# Altium footprint library Nixielib.PcbLib: 35 footprints (part 2 of 3)
Each footprint in its own frame and in the unit in brackets; x right, y up, seen from the top. Pads: shape width x height; smd on the part's side, far side on the other; paste and mask are expansions set on the pad; w line width, h text height; cw(c..) or ccw(c..) is an arc to the next point about the centre after c.
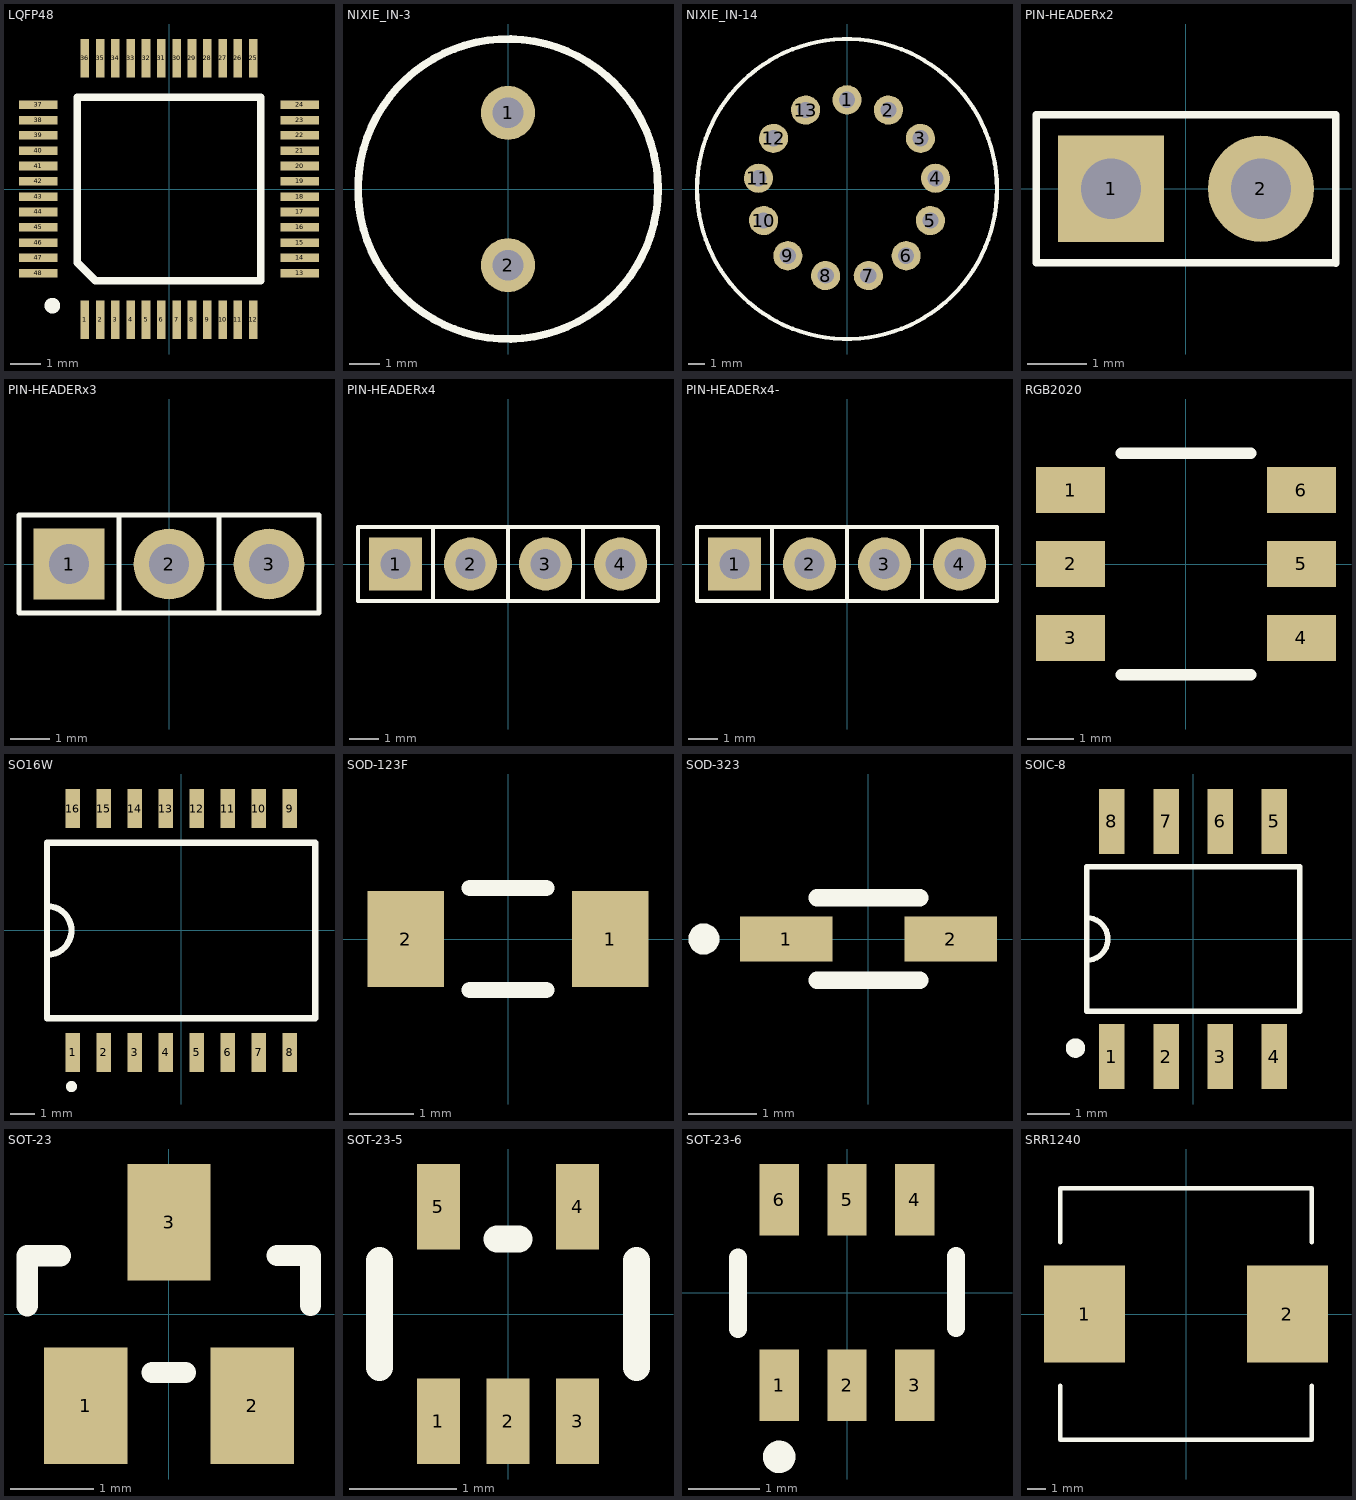
[diagram p1: the footprints below, top view; thin cyan lines are the x and y axes]

## LQFP48 [mm]
pads (48):
  rect 0.28x1.25 smd: 1(-2.75,-4.274) 2(-2.25,-4.274) 3(-1.75,-4.274) 4(-1.25,-4.274) 5(-0.75,-4.274) 6(-0.25,-4.274) 7(0.25,-4.274) 8(0.75,-4.274) 9(1.25,-4.274) 10(1.75,-4.274) 11(2.25,-4.274) 12(2.75,-4.274) 25(2.75,4.274) 26(2.25,4.274) 27(1.75,4.274) 28(1.25,4.274) 29(0.75,4.274) 30(0.25,4.274) 31(-0.25,4.274) 32(-0.75,4.274) 33(-1.25,4.274) 34(-1.75,4.274) 35(-2.25,4.274) 36(-2.75,4.274)
  rect 1.25x0.28 smd: 13(4.274,-2.75) 14(4.274,-2.25) 15(4.274,-1.75) 16(4.274,-1.25) 17(4.274,-0.75) 18(4.274,-0.25) 19(4.274,0.25) 20(4.274,0.75) 21(4.274,1.25) 22(4.274,1.75) 23(4.274,2.25) 24(4.274,2.75) 37(-4.274,2.75) 38(-4.274,2.25) 39(-4.274,1.75) 40(-4.274,1.25) 41(-4.274,0.75) 42(-4.274,0.25) 43(-4.274,-0.25) 44(-4.274,-0.75) 45(-4.274,-1.25) 46(-4.274,-1.75) 47(-4.274,-2.25) 48(-4.274,-2.75)
Top Overlay:
  circle w0.254: c-3.81,-3.81 r0.127
  lines w0.254: -3,-2.4 -2.4,-3 3,-3 3,3 -3,3 -3,-2.4
3D body "User Library-LQFP48_Grid_0_5.STEP": height 1.6, standoff 0, extent -4.5,-4.499 4.5,4.501

## NIXIE_IN-3 [mm]
pads (2):
  round 1.8 hole 1.02: 1(0,2.54) 2(0,-2.54)
Top Overlay:
  circle w0.254: c0,0 r5
3D body "NIXIE-IN1313.STEP": height 37.33, standoff -9.67, extent -5.08,-5 4.92,5

## NIXIE_IN-14 [mm]
pads (13):
  round 1.8 hole 1: 1(0,5.5) 2(2.556,4.87) 3(4.527,3.124) 4(5.46,0.663) 5(5.142,-1.951) 6(3.647,-4.117) 7(1.316,-5.34) 8(-1.316,-5.34) 9(-3.647,-4.117) 10(-5.143,-1.95) 11(-5.46,0.663) 12(-4.526,3.124) 13(-2.556,4.87)
Top Overlay:
  circle w0.254: c0,0 r9.25
3D body "V+Z-IN14.STEP": height 70.15, standoff -9.35, extent -9.29,-9.914 9.21,9.086

## PIN-HEADERx2 [mm]
pads (2):
  rect 1.8x1.8 hole 1.02: 1(-1.27,0)
  round 1.8 hole 1.02: 2(1.27,0)
Top Overlay:
  lines w0.127: 2.53,-1.25 -2.54,-1.25 -2.54,1.25 2.54,1.25 2.54,-1.26

## PIN-HEADERx3 [mm]
pads (3):
  rect 1.8x1.8 hole 1.02: 1(-2.54,0)
  round 1.8 hole 1.02: 2(0,0) 3(2.54,0)
Top Overlay:
  lines w0.127: -1.27,-1.25 -1.27,1.25 ; 1.27,-1.25 1.27,1.25 ; -3.81,-1.25 -3.81,1.25 3.81,1.25 3.81,-1.25 -3.81,-1.25

## PIN-HEADERx4 [mm]
pads (4):
  rect 1.8x1.8 hole 1.02: 1(-3.81,0)
  round 1.8 hole 1.02: 2(-1.27,0) 3(1.27,0) 4(3.81,0)
Top Overlay:
  lines w0.127: -2.54,-1.25 -2.54,1.25 ; 0,-1.25 0,1.25 ; 2.54,-1.25 2.54,1.25 ; -5.08,-1.25 -5.08,1.25 5.08,1.25 5.08,-1.25 -5.08,-1.25
3D body "65781.stp": height 8.77, standoff -2.77, extent -5.08,-1.27 5.08,1.27

## PIN-HEADERx4- [mm]
pads (4):
  rect 1.8x1.8 hole 1.02: 1(-3.81,0)
  round 1.8 hole 1.02: 2(-1.27,0) 3(1.27,0) 4(3.81,0)
Top Overlay:
  lines w0.127: -2.54,-1.25 -2.54,1.25 ; 0,-1.25 0,1.25 ; 2.54,-1.25 2.54,1.25 ; -5.08,-1.25 -5.08,1.25 5.08,1.25 5.08,-1.25 -5.08,-1.25

## RGB2020 [mm]
pads (6):
  rect 1.5x1 smd: 1(-2.5,1.6) 2(-2.5,0) 3(-2.5,-1.6) 4(2.5,-1.6) 5(2.5,0) 6(2.5,1.6)
Top Overlay:
  lines w0.254: -1.4,-2.4 1.4,-2.4 ; -1.4,2.4 1.4,2.4
3D body "User Library-APA102C.step": height 1.55, standoff 0, extent -2.75,-2.5 2.75,2.5

## SO16W [mm]
pads (16):
  rect 0.6x1.6 smd: 1(-4.445,-5) 2(-3.175,-5) 3(-1.905,-5) 4(-0.635,-5) 5(0.635,-5) 6(1.905,-5) 7(3.175,-5) 8(4.445,-5) 9(4.445,5) 10(3.175,5) 11(1.905,5) 12(0.635,5) 13(-0.635,5) 14(-1.905,5) 15(-3.175,5) 16(-4.445,5)
Top Overlay:
  circle w0.254: c-4.5,-6.4 r0.1
  lines w0.254: -5.5,-1 ccw(c-5.5,0) -5.5,1 ; -5.5,-3.6 -5.5,3.6 5.5,3.6 5.5,-3.6 -5.5,-3.6
3D body "User Library-SO-16W.STEP": height 2.48, standoff 0, extent -5.165,-5.255 5.165,5.055

## SOD-123F [mm]
pads (2):
  rect 1.2x1.5 smd: 1(1.6,0) 2(-1.6,0)
Top Overlay:
  lines w0.254: -0.6,-0.8 0.6,-0.8 ; -0.6,0.8 0.6,0.8
3D body "User Library-SOD123F.STEP": height 1.2, standoff -0.01, extent -1.9,-0.85 1.85,0.85

## SOD-323 [mm]
pads (2):
  rect 1.35x0.65 smd: 1(-1.2,0) 2(1.2,0)
Top Overlay:
  circle w0.254: c-2.4,0 r0.1
  lines w0.254: -0.75,-0.6 0.75,-0.6 ; -0.75,0.6 0.75,0.6
3D body "SW3dPS-SOD-323.STEP": height 1.1, standoff 0, extent -1.3,-0.675 1.3,0.675

## SOIC-8 [mm]
pads (8):
  rect 0.6x1.52 smd: 1(-1.905,-2.76) 2(-0.635,-2.76) 3(0.635,-2.76) 4(1.905,-2.76) 5(1.905,2.76) 6(0.635,2.76) 7(-0.635,2.76) 8(-1.905,2.76)
Top Overlay:
  circle w0.254: c-2.76,-2.56 r0.1
  lines w0.127: -2.5,-0.5 ccw(c-2.5,0) -2.5,0.5 ; -2.5,-1.7 2.5,-1.7 2.5,1.7 -2.5,1.7 -2.5,-1.7
3D body "User Library-SOIC8_JEDEC_MS-012AA.STEP": height 1.75, standoff -0.01, extent -2.5,-3.099 2.5,3.1

## SOT-23 [mm]
pads (3):
  rect 1x1.4 smd: 1(-1,-1.1) 2(1,-1.1) 3(0,1.1)
Top Overlay:
  lines w0.254: -1.7,0.1 -1.7,0.7 -1.3,0.7 ; -0.2,-0.7 0.2,-0.7 ; 1.3,0.7 1.7,0.7 1.7,0.1
3D body "CircuitWorks-SOT-23.step": height 1.15, standoff 0.05, extent -1.5,-1.25 1.5,1.25

## SOT-23-5 [mm]
pads (5):
  rect 0.4x0.8 smd: 1(-0.65,-1) 2(0,-1) 3(0.65,-1) 4(0.65,1) 5(-0.65,1)
Top Overlay:
  lines w0.254: -1.2,-0.5 -1.2,0.5 ; -0.1,0.7 0.1,0.7 ; 1.2,-0.5 1.2,0.5
3D body "User Library-TSSOP-5 (SOT-23-5 PITCH 0_65).STEP": height 1.1, standoff -0.01, extent -1.125,-1.125 1.125,1.125

## SOT-23-6 [mm]
pads (6):
  rect 0.55x1 smd: 1(-0.95,-1.3) 2(0,-1.3) 3(0.95,-1.3) 4(0.95,1.3) 5(0,1.3) 6(-0.95,1.3)
Top Overlay:
  circle w0.254: c-0.95,-2.3 r0.1
  lines w0.254: -1.524,-0.508 -1.524,0.492 ; 1.524,-0.492 1.524,0.508
3D body: height 0.25, standoff 0, extent 0,0 0,0
3D body "User Library-SOT23-6-2.step": height 1.45, standoff 0, extent -1.45,-1.4 1.45,1.4

## SRR1240 [mm]
pads (2):
  rect 4.5x5.4 smd: 1(-5.65,0) 2(5.65,0)
Top Overlay:
  lines w0.254: -7,-4 -7,-7 7,-7 7,-4 ; -7,4 -7,7 7,7 7,4
3D body "srr1240-101m.stp": height 4, standoff 0, extent -6.25,-6.25 6.25,6.25